# Altium footprint library RPlan_LB.PcbLib: 39 footprints (part 1 of 3)
Each footprint in its own frame and in the unit in brackets; x right, y up, seen from the top. Pads: shape width x height; smd on the part's side, far side on the other; paste and mask are expansions set on the pad; w line width, h text height; cw(c..) or ccw(c..) is an arc to the next point about the centre after c.
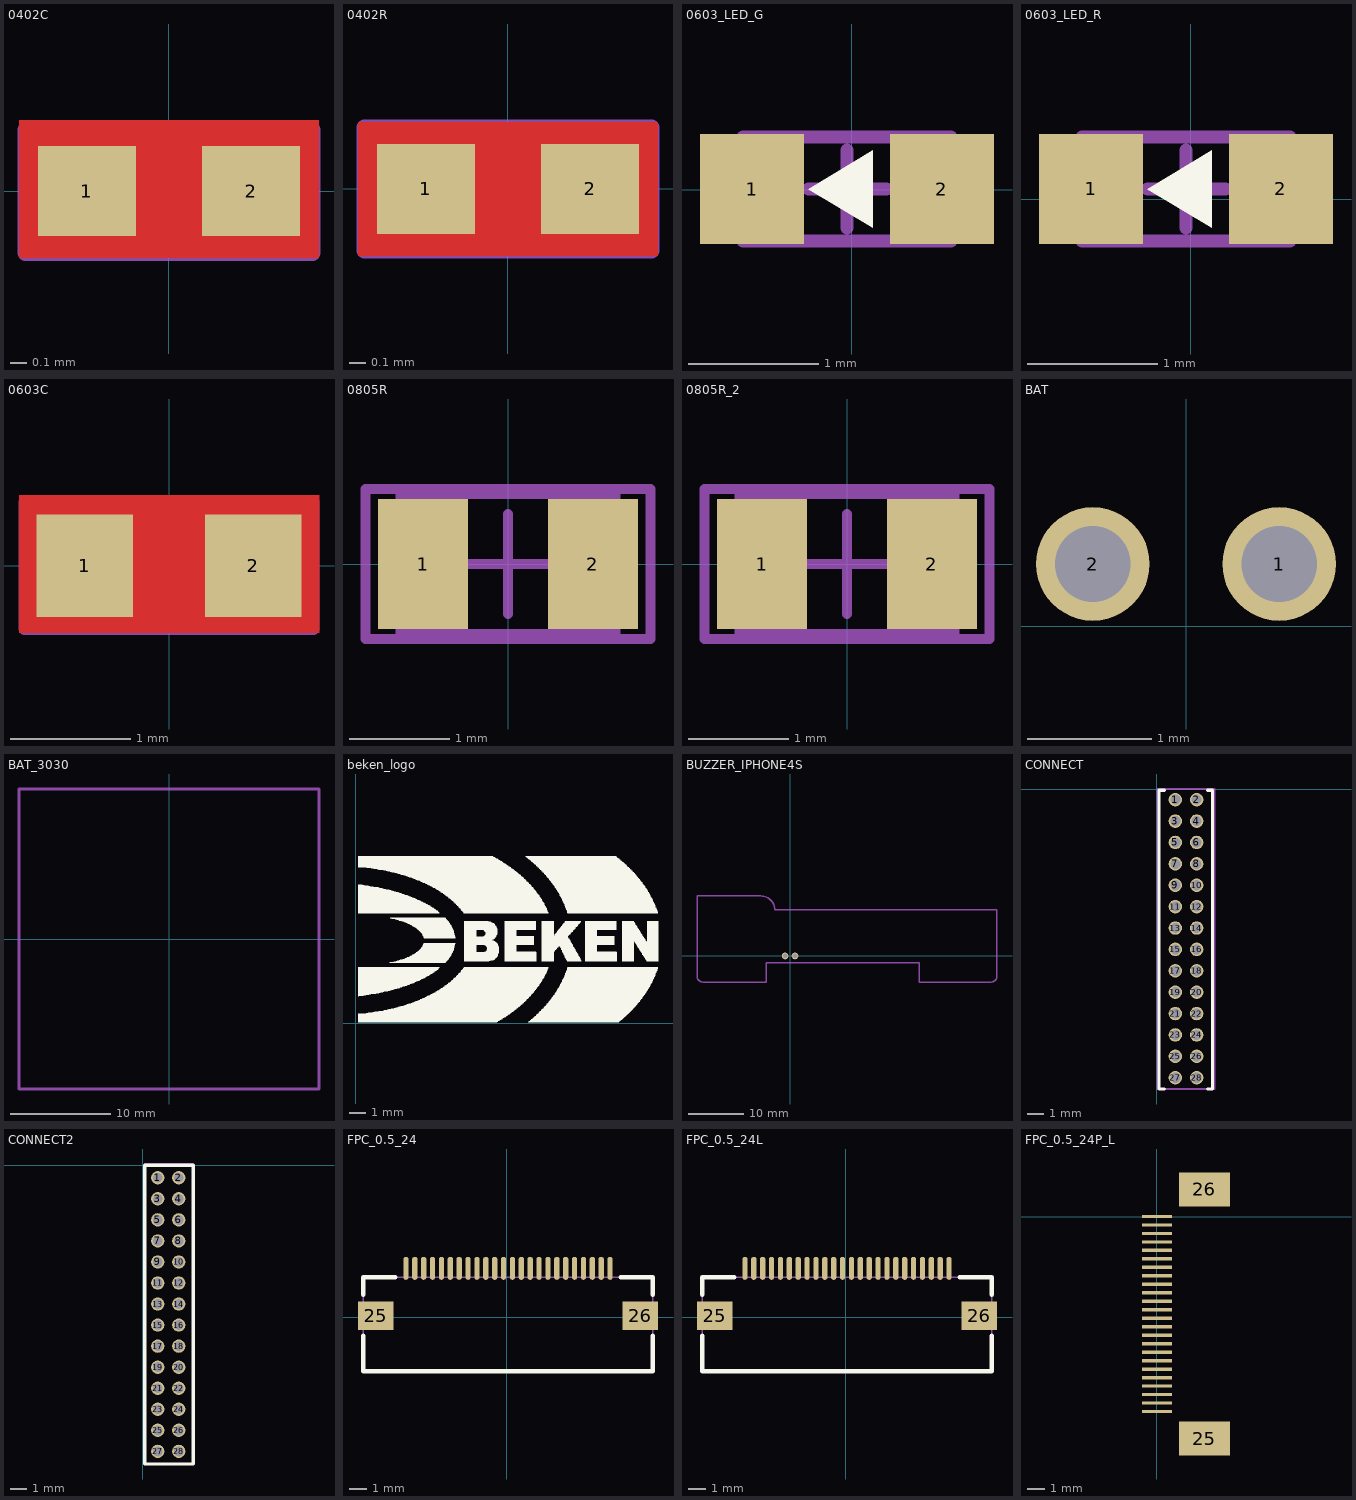
[diagram p0: the footprints below, top view; thin cyan lines are the x and y axes]

## 0402C [mm] "http://www.samsungsem.com/cn/front/downloadcms.do?path=%2F%2Fcn%2F%2Fsupport%2F%2Flibrary%2F%2Fproduct-catalog%2F%2F__icsFiles%2F%2Fafieldfile%2F%2F2015%2F%2F01%2F%2F12&fileName=CHIP_RESISTOR_150112_9.pdf"
height 0.4
pads (2):
  rect 0.6x0.55 smd: 1(-0.5,0) 2(0.5,0)
Top Layer:
  pour cut-out: -0.914,0.432 -0.914,-0.406 0.914,-0.406 0.914,0.432
Mechanical 13:
  lines w0.1: -0.525,-0.275 -0.525,0.275 0.525,0.275 0.525,-0.275 -0.525,-0.275
Mechanical 15:
  lines w0.1: -0.275,0 0.275,0 ; 0,-0.275 0,0.275 ; -0.875,-0.375 -0.875,0.375 0.875,0.375 0.875,-0.375 -0.875,-0.375
3D body: height 0.4, standoff 0, extent -0.525,-0.275 0.525,0.275

## 0402R [mm] "http://www.samsungsem.com/cn/front/downloadcms.do?path=%2F%2Fcn%2F%2Fsupport%2F%2Flibrary%2F%2Fproduct-catalog%2F%2F__icsFiles%2F%2Fafieldfile%2F%2F2015%2F%2F01%2F%2F12&fileName=CHIP_RESISTOR_150112_9.pdf"
height 0.4
pads (2):
  rect 0.6x0.55 smd: 1(-0.5,0) 2(0.5,0)
Top Layer:
  pour cut-out: -0.914,0.406 -0.914,-0.406 0.914,-0.406 0.914,0.406
Mechanical 13:
  lines w0.1: -0.525,-0.275 0.525,-0.275 0.525,0.275 -0.525,0.275 -0.525,-0.275
Mechanical 15:
  lines w0.1: -0.275,0 0.275,0 ; 0,-0.275 0,0.275 ; -0.875,-0.375 0.875,-0.375 0.875,0.375 -0.875,0.375 -0.875,-0.375
3D body: height 0.4, standoff 0, extent -0.525,-0.275 0.525,0.275

## 0603_LED_G [mm]
pads (2):
  rect 0.8x0.85 smd: 1(-0.765,0.007) 2(0.695,0.007)
Top Overlay:
  region: -0.335,0.007 0.165,-0.293 0.165,0.307
Mechanical 15:
  lines w0.1: -0.332,0.007 0.268,0.007 ; -0.035,-0.293 -0.035,0.307 ; -0.835,-0.393 0.765,-0.393 0.765,0.407 -0.835,0.407 -0.835,-0.393
3D body "LED0603(G).STEP": height 0.6, standoff 0, extent -0.845,-0.393 0.775,0.407

## 0603_LED_R [mm]
pads (2):
  rect 0.8x0.85 smd: 1(-0.765,0.08) 2(0.695,0.08)
Top Overlay:
  region: -0.335,0.08 0.165,-0.22 0.165,0.38
Mechanical 15:
  lines w0.1: -0.332,0.08 0.268,0.08 ; -0.035,-0.22 -0.035,0.38 ; -0.835,-0.32 -0.835,0.48 0.765,0.48 0.765,-0.32 -0.835,-0.32
3D body "LED0603(R).STEP": height 0.6, standoff 0, extent -0.845,-0.32 0.775,0.48

## 0603C [mm] "http://www.samsungsem.com/cn/front/downloadcms.do?path=%2F%2Fcn%2F%2Fsupport%2F%2Flibrary%2F%2Fproduct-catalog%2F%2F__icsFiles%2F%2Fafieldfile%2F%2F2015%2F%2F01%2F%2F12&fileName=CHIP_RESISTOR_150112_12.pdf"
height 0.55
pads (2):
  rect 0.8x0.85 smd: 1(-0.7,0) 2(0.7,0)
Top Layer:
  pour cut-out: -1.245,0.584 -1.245,-0.559 1.245,-0.559 1.245,0.584
Mechanical 1:
  lines w0.2: -0.1,-0.325 0.1,-0.325 ; -0.1,0.325 0.1,0.325
Mechanical 13:
  lines w0.1: -0.85,-0.45 0.85,-0.45 0.85,0.45 -0.85,0.45 -0.85,-0.45
Mechanical 15:
  lines w0.1: -0.45,0 0.45,0 ; 0,-0.45 0,0.45 ; -1.2,-0.525 1.2,-0.525 1.2,0.525 -1.2,0.525 -1.2,-0.525
3D body: height 0.55, standoff 0, extent -0.85,-0.45 0.85,0.45

## 0805R [mm] "http://www.samsungsem.com/cn/front/downloadcms.do?path=%2F%2Fcn%2F%2Fsupport%2F%2Flibrary%2F%2Fproduct-catalog%2F%2F__icsFiles%2F%2Fafieldfile%2F%2F2015%2F%2F01%2F%2F12&fileName=CHIP_RESISTOR_150112_15.pdf"
height 0.6
pads (2):
  rect 0.9x1.3 smd: 1(-0.85,0) 2(0.85,0)
Mechanical 13:
  lines w0.1: -1.075,-0.7 -1.075,0.7 1.075,0.7 1.075,-0.7 -1.075,-0.7
Mechanical 15:
  lines w0.1: -0.5,0 0.5,0 ; 0,-0.5 0,0.5 ; -1.425,-0.75 -1.425,0.75 1.425,0.75 1.425,-0.75 -1.425,-0.75
3D body: height 0.6, standoff 0, extent -1.075,-0.7 1.075,0.7

## 0805R_2 [mm]
pads (2):
  rect 0.9x1.3 smd: 1(-0.85,0) 2(0.85,0)
Mechanical 13:
  lines w0.1: -1.075,-0.7 -1.075,0.7 1.075,0.7 1.075,-0.7 -1.075,-0.7
Mechanical 15:
  lines w0.1: -0.5,0 0.5,0 ; 0,-0.5 0,0.5 ; -1.425,-0.75 -1.425,0.75 1.425,0.75 1.425,-0.75 -1.425,-0.75
3D body: height 0.6, standoff 0, extent -1.075,-0.7 1.075,0.7

## BAT [mil]
height 50
pads (2):
  round 36 hole 24: 1(29.53,19.68) 2(-29.53,19.68)
Mechanical 1:
  text "-" at 20,-25 h25
  text "+" at -40,-25 h25

## BAT_3030 [mm]
Mechanical 1:
  lines w0.254: -15,-15 15,-15 15,15 -15,15 -15,-15

## beken_logo [mm]
Top Overlay:
  drawing of 1449 lines, arcs and shapes, not listed

## BUZZER_IPHONE4S [mm]
height 5
pads (2):
  round 1.2 hole 0.813: 1(-0.889,0) 2(0.889,0)
Mechanical 15:
  lines w0.254: -16.75,-3.7 ccw(c-15.75,-3.7) -15.75,-4.7 -4.25,-4.7 -4.25,-1.2 23.25,-1.2 23.25,-4.7 36.25,-4.7 ccw(c36.25,-3.7) 37.25,-3.7 37.25,8.3 -2.75,8.3 ccw(c-5.25,8.3) -5.25,10.8 -16.75,10.8 -16.75,-3.668

## CONNECT [mm]
pads (28):
  round 0.8 hole 0.6: 1(1.096,-0.635) 2(2.366,-0.635) 3(1.096,-1.905) 4(2.366,-1.905) 5(1.096,-3.175) 6(2.366,-3.175) 7(1.096,-4.445) 8(2.366,-4.445) 9(1.096,-5.715) 10(2.366,-5.715) 11(1.096,-6.985) 12(2.366,-6.985) 13(1.096,-8.255) 14(2.366,-8.255) 15(1.096,-9.525) 16(2.366,-9.525) 17(1.096,-10.795) 18(2.366,-10.795) 19(1.096,-12.065) 20(2.366,-12.065) 21(1.096,-13.335) 22(2.366,-13.335) 23(1.096,-14.605) 24(2.366,-14.605) 25(1.096,-15.875) 26(2.366,-15.875) 27(1.096,-17.145) 28(2.366,-17.145)
Top Overlay:
  lines w0.2: 0.431,-17.815 0.127,-17.815 0.127,-0.07 0.431,-0.07 ; 3.031,-17.815 3.302,-17.815 3.302,-0.07 3.031,-0.07
Mechanical 15:
  lines w0.1: 0.031,-17.815 3.431,-17.815 3.431,0 0.031,0 0.031,-17.815
3D body "HEADER 1.27-2X28.STEP": height 2.1, standoff -5.2, extent 0.254,-17.78 3.254,0

## CONNECT2 [mm]
pads (28):
  round 0.8 hole 0.6: 1(0.907,-0.762) 2(2.177,-0.762) 3(0.907,-2.032) 4(2.177,-2.032) 5(0.907,-3.302) 6(2.177,-3.302) 7(0.907,-4.572) 8(2.177,-4.572) 9(0.907,-5.842) 10(2.177,-5.842) 11(0.907,-7.112) 12(2.177,-7.112) 13(0.907,-8.382) 14(2.177,-8.382) 15(0.907,-9.652) 16(2.177,-9.652) 17(0.907,-10.922) 18(2.177,-10.922) 19(0.907,-12.192) 20(2.177,-12.192) 21(0.907,-13.462) 22(2.177,-13.462) 23(0.907,-14.732) 24(2.177,-14.732) 25(0.907,-16.002) 26(2.177,-16.002) 27(0.907,-17.272) 28(2.177,-17.272)
Top Overlay:
  lines w0.2: 0.127,-18.034 3.048,-18.034 3.048,0 0.127,0 0.127,-18.034
Mechanical 15:
  lines w0.1: 0.127,-18.034 0.127,0.068 3.042,0.068 3.042,-18.034 0.127,-18.034
3D body "Header-F-1.27-2X28.stp": height 3.4, standoff -2.4, extent 0.042,-18.107 3.142,0.073

## FPC_0.5_24 [mm]
pads (26):
  oval 0.3x1.3 smd: 1(-5.667,2.747) 2(-5.167,2.747) 3(-4.667,2.747) 4(-4.167,2.747) 5(-3.667,2.747) 6(-3.167,2.747) 7(-2.667,2.747) 8(-2.167,2.747) 9(-1.667,2.747) 10(-1.167,2.747) 11(-0.667,2.747) 12(-0.167,2.747) 13(0.333,2.747) 14(0.833,2.747) 15(1.333,2.747) 16(1.833,2.747) 17(2.333,2.747) 18(2.833,2.747) 19(3.333,2.747) 20(3.833,2.747) 21(4.333,2.747) 22(4.833,2.747) 23(5.333,2.747) 24(5.833,2.747)
  rect 2x1.6 smd: 25(-7.367,0.067) 26(7.533,0.067)
Top Overlay:
  lines w0.25: -8.067,-1.053 -8.067,-3.053 8.233,-3.053 8.233,-1.053 ; -8.067,1.247 -8.067,2.247 -6.267,2.247 ; 6.433,2.247 8.233,2.247 8.233,1.247
Mechanical 15:
  lines w0.1: -8.067,-3.053 8.233,-3.053 8.233,2.247 -8.067,2.247 -8.067,-3.053
3D body "HEADER-FPC-ZIF-SMD-Horizontal-0.5-24.stp": height 2.2, standoff -0.05, extent -7.967,-3.392 8.133,3.107

## FPC_0.5_24L [mm]
pads (26):
  oval 0.3x1.3 smd: 1(5.833,2.747) 2(5.333,2.747) 3(4.833,2.747) 4(4.333,2.747) 5(3.833,2.747) 6(3.333,2.747) 7(2.833,2.747) 8(2.333,2.747) 9(1.833,2.747) 10(1.333,2.747) 11(0.833,2.747) 12(0.333,2.747) 13(-0.167,2.747) 14(-0.667,2.747) 15(-1.167,2.747) 16(-1.667,2.747) 17(-2.167,2.747) 18(-2.667,2.747) 19(-3.167,2.747) 20(-3.667,2.747) 21(-4.167,2.747) 22(-4.667,2.747) 23(-5.167,2.747) 24(-5.667,2.747)
  rect 2x1.6 smd: 25(-7.367,0.067) 26(7.533,0.067)
Top Overlay:
  lines w0.25: -8.067,-1.053 -8.067,-3.053 8.233,-3.053 8.233,-1.053 ; -8.067,1.247 -8.067,2.247 -6.267,2.247 ; 6.433,2.247 8.233,2.247 8.233,1.247
Mechanical 15:
  lines w0.1: -8.067,-3.053 -8.067,2.247 8.233,2.247 8.233,-3.053 -8.067,-3.053
3D body "HEADER-FPC-ZIF-SMD-Horizontal-0.5-24.stp": height 2.2, standoff -0.05, extent -7.967,-3.392 8.133,3.107

## FPC_0.5_24P_L [mm]
height 1.27
pads (26):
  rect 1.75x0.2 smd mask+0.051: 1(0,0) 2(0,-0.5) 3(0,-1) 4(0,-1.5) 5(0,-2) 6(0,-2.5) 7(0,-3) 8(0,-3.5) 9(0,-4) 10(0,-4.5) 11(0,-5) 12(0,-5.5) 13(0,-6) 14(0,-6.5) 15(0,-7) 16(0,-7.5) 17(0,-8) 18(0,-8.5) 19(0,-9) 20(0,-9.5) 21(0,-10) 22(0,-10.5) 23(0,-11) 24(0,-11.5)
  rect 3x2 smd: 25(2.8,-13.1) 26(2.8,1.6)
3D body "HEADER-FPC-ZIF-SMD-Horizontal-0.5-24.stp": height 2.2, standoff -0.05, extent -0.502,-13.765 5.997,2.335